# Altium schematic symbol library Relays.SchLib: 2 symbols
Pins are listed as number, name and electrical type; pins without a type are passive.

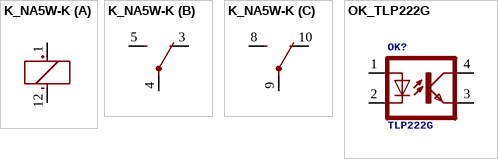
[diagram p0: symbols K_NA5W-K to OK_TLP222G]

## K_NA5W-K
designator K?, comment NA5W-K  (value not drawn)
Price: 1.1
footprint NA5
part A pins: 1 +, 12 -
part B pins: 3 O, 4 P, 5 S
part C pins: 8 S, 9 P, 10 O

## OK_TLP222G
designator OK?, comment TLP222G
Price: 0.36
footprint DIL4
pins: 1 A, 2 C, 3 EMIT, 4 COL